# Altium footprint library SnapEDApcb.PcbLib: 1 footprints
Each footprint in its own frame and in the unit in brackets; x right, y up, seen from the top. Pads: shape width x height; smd on the part's side, far side on the other; paste and mask are expansions set on the pad; w line width, h text height; cw(c..) or ccw(c..) is an arc to the next point about the centre after c.
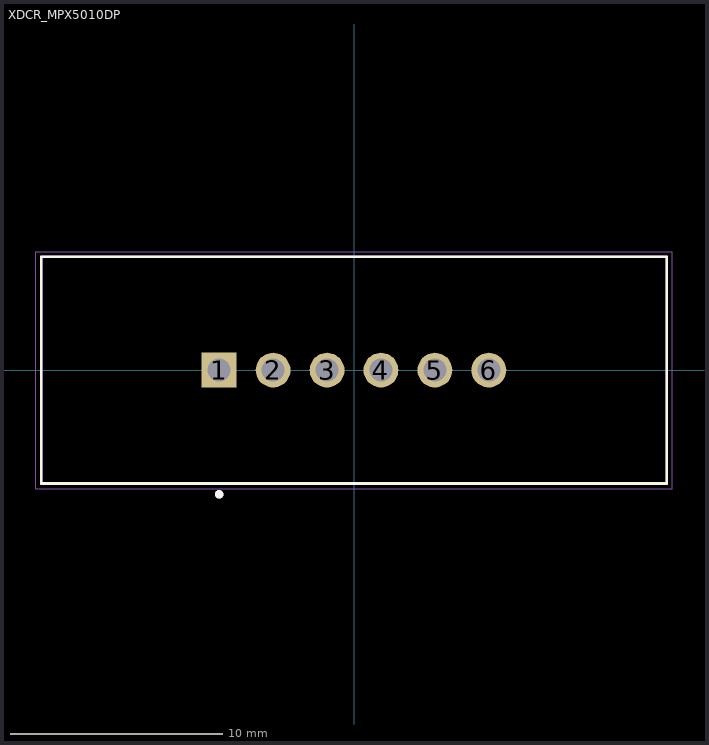
[diagram p0: the footprint, top view; thin cyan lines are the x and y axes]

## XDCR_MPX5010DP [mm]
pads (6):
  rect 1.64x1.64 hole 1.09: 1(-6.35,0)
  round 1.64 hole 1.09: 2(-3.81,0) 3(-1.27,0) 4(1.27,0) 5(3.81,0) 6(6.35,0)
Top Overlay:
  circle w0.2: c-6.35,-5.85 r0.1
  lines w0.127: -14.733,-5.335 14.733,-5.335 14.733,5.335 -14.733,5.335 -14.733,-5.335
Mechanical 13:
  circle w0.2: c-6.35,-5.85 r0.1
  lines w0.127: -14.733,-5.335 14.733,-5.335 14.733,5.335 -14.733,5.335 -14.733,-5.335
Mechanical 15:
  lines w0.05: -14.982,-5.585 14.982,-5.585 14.982,5.585 -14.982,5.585 -14.982,-5.585